# Altium schematic symbol library discrete.SchLib: 26 symbols
Pins are listed as number, name and electrical type; pins without a type are passive.

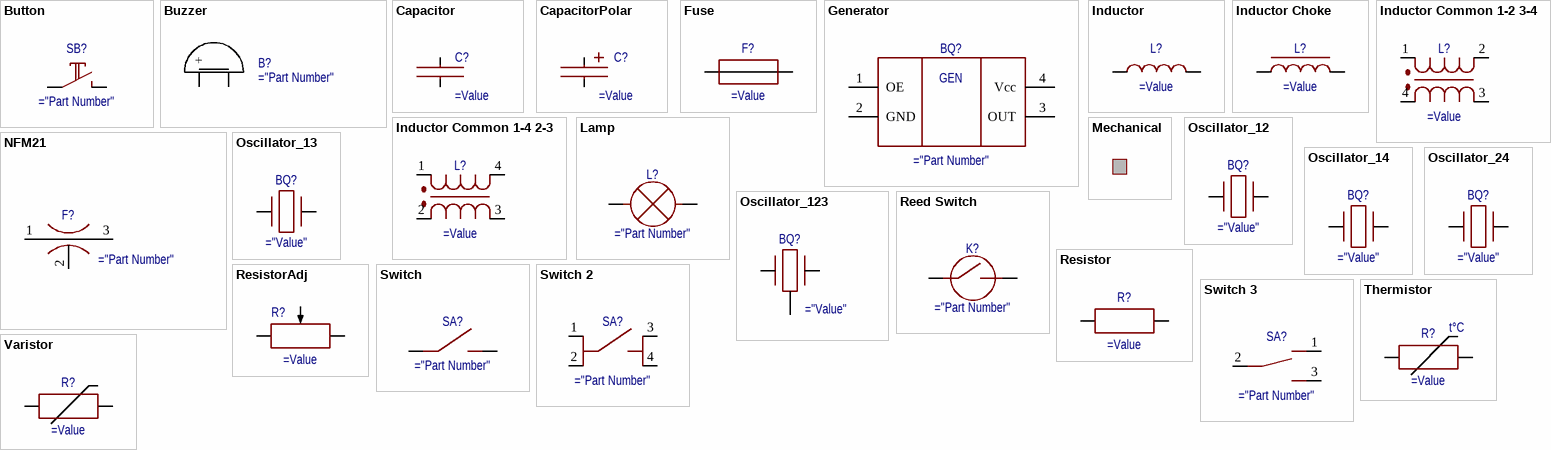
[diagram p0: symbols Button to Varistor]

## Button
designator SB?
Кнопка тактовая
pins: 1, 2

## Buzzer
designator B?
Зуммер
pins: 1 +, 2 -

## Capacitor
designator C?
Неполяризованный конденсатор
pins: 1, 2

## CapacitorPolar
designator C?
Поляризованный конденсатор
pins: 1, 2

## Fuse
designator F?
Предохранитель
pins: 1, 2

## Generator
designator BQ?
Кварцевый генератор
pins: 1 OE, 2 GND, 3 OUT, 4 Vcc
text: GEN

## Inductor
designator L?
Индуктивность
pins: 1, 2

## Inductor Choke
designator L?
Дроссель с магнитопроводом
pins: 1, 2

## Inductor Common 1-2 3-4
designator L?
Синфазный дроссель
pins: 1, 2, 3, 4

## Inductor Common 1-4 2-3
designator L?
Синфазный дроссель
pins: 1, 2, 3, 4

## Lamp
designator L?
Лампа
pins: 1, 2

## Mechanical
designator M?
Конструктивные элементы платы

## NFM21
designator F?
EMI suppression filter
pins: 1, 2, 3

## Oscillator_12
designator BQ?
Резонатор
pins: 1, 2

## Oscillator_13
designator BQ?
Резонатор
pins: 1, 3

## Oscillator_14
designator BQ?
Резонатор
pins: 1, 4

## Oscillator_24
designator BQ?
Резонатор
pins: 2, 4

## Oscillator_123
designator BQ?
Резонатор
pins: 1, 2, 3

## Reed Switch
designator K?
Геркон
pins: 1, 2

## Resistor
designator R?
Резистор
pins: 1, 2

## ResistorAdj
designator R?
Подстроечный резистор
pins: 1, 2, 3

## Switch
designator SA?
Кнопка
pins: 1, 2

## Switch 2
designator SA?
Кнопка
pins: 1, 2, 3, 4

## Switch 3
designator SA?
Переключатель
pins: 1, 2, 3

## Thermistor
designator R?
Терморезистор
pins: 1, 2
text: t°C

## Varistor
designator R?
Варистор
pins: 1, 2